# Altium schematic symbol library RSCMJJM005NDSE3 Pressure Sensor.SchLib: 1 symbol
Pins are listed as number, name and electrical type; pins without a type are passive.

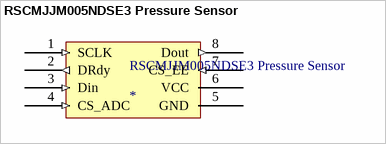
[diagram p0: symbol RSCMJJM005NDSE3 Pressure Sensor]

## RSCMJJM005NDSE3 Pressure Sensor
designator RSCMJJM005NDSE3 Pressure Sensor
Pressure Sensor
pins: 1 SCLK (in), 2 DRdy (out), 3 Din (in), 4 CS_ADC (in), 5 GND (power), 6 VCC (power), 7 CS_EE (in), 8 Dout (out)